# Altium footprint library PCB1.PcbLib: 20 footprints (part 2 of 2)
Each footprint in its own frame and in the unit in brackets; x right, y up, seen from the top. Pads: shape width x height; smd on the part's side, far side on the other; paste and mask are expansions set on the pad; w line width, h text height; cw(c..) or ccw(c..) is an arc to the next point about the centre after c.
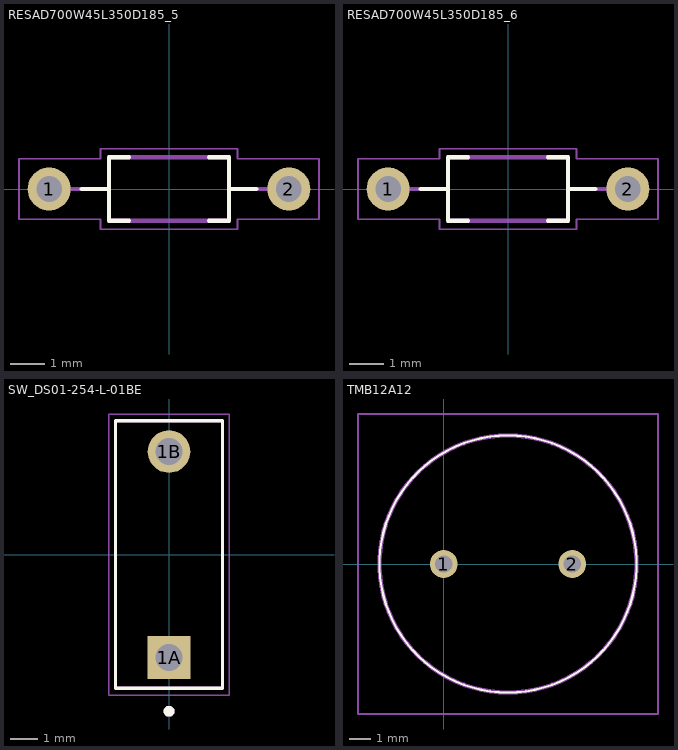
[diagram p1: the footprints below, top view; thin cyan lines are the x and y axes]

## RESAD700W45L350D185_5 [mm]
pads (2):
  round 1.258 hole 0.75: 1(-3.5,0) 2(3.5,0)
Top Overlay:
  lines w0.127: -2.55,0 -1.75,0 ; -1.17,-0.925 -1.75,-0.925 -1.75,0 ; -1.17,0.925 -1.75,0.925 -1.75,0 ; 1.17,-0.925 1.75,-0.925 1.75,0 ; 1.17,0.925 1.75,0.925 1.75,0 ; 2.55,0 1.75,0
Mechanical 13:
  lines w0.127: -2.925,0 -1.75,0 ; 2.925,0 1.75,0 ; -1.75,0 -1.75,-0.925 1.75,-0.925 1.75,0 ; -1.75,0 -1.75,0.925 1.75,0.925 1.75,0
Mechanical 15:
  lines w0.05: -4.38,-0.88 -2,-0.88 -2,-1.175 2,-1.175 2,-0.88 4.38,-0.88 4.38,0.88 2,0.88 2,1.175 -2,1.175 -2,0.88 -4.38,0.88 -4.38,-0.88

## RESAD700W45L350D185_6 [mm]
pads (2):
  round 1.258 hole 0.75: 1(-3.5,0) 2(3.5,0)
Top Overlay:
  lines w0.127: -2.55,0 -1.75,0 ; -1.17,-0.925 -1.75,-0.925 -1.75,0 ; -1.17,0.925 -1.75,0.925 -1.75,0 ; 1.17,-0.925 1.75,-0.925 1.75,0 ; 1.17,0.925 1.75,0.925 1.75,0 ; 2.55,0 1.75,0
Mechanical 13:
  lines w0.127: -2.925,0 -1.75,0 ; 2.925,0 1.75,0 ; -1.75,0 -1.75,-0.925 1.75,-0.925 1.75,0 ; -1.75,0 -1.75,0.925 1.75,0.925 1.75,0
Mechanical 15:
  lines w0.05: -4.38,-0.88 -2,-0.88 -2,-1.175 2,-1.175 2,-0.88 4.38,-0.88 4.38,0.88 2,0.88 2,1.175 -2,1.175 -2,0.88 -4.38,0.88 -4.38,-0.88

## SW_DS01-254-L-01BE [mm]
height 7
pads (2):
  rect 1.58x1.58 / inner round 1.58 / far side rect 1.58x1.58 hole 1: 1A(0,-3.81)
  round 1.58 hole 1: 1B(0,3.81)
Top Overlay:
  circle w0.2: c0,-5.8 r0.1
  lines w0.127: -1.98,-4.95 -1.98,4.95 1.98,4.95 1.98,-4.95 -1.98,-4.95
Mechanical 13:
  circle w0.2: c0,-5.8 r0.1
  lines w0.127: -1.98,-4.95 -1.98,4.95 1.98,4.95 1.98,-4.95 -1.98,-4.95
Mechanical 15:
  lines w0.05: -2.23,-5.2 -2.23,5.2 2.23,5.2 2.23,-5.2 -2.23,-5.2

## TMB12A12 [mm]
height 8.7
pads (2):
  round 1.3 hole 0.8: 1(0,0) 2(6,0)
Top Overlay:
  lines w0.1: 3,-6 cw(c3,0) 3,6 cw(c3,0) 3,-6
Mechanical 13:
  lines w0.2: 3,-6 cw(c3,0) 3,6 cw(c3,0) 3,-6
Mechanical 15:
  lines w0.1: -4,-7 10,-7 10,7 -4,7 -4,-7
3D body "TMB12A12.stp": height 9.9, standoff -5, extent -2.988,-6 8.988,6